# Altium footprint library Board Extenders.PcbLib: 1 footprints
Each footprint in its own frame and in the unit in brackets; x right, y up, seen from the top. Pads: shape width x height; smd on the part's side, far side on the other; paste and mask are expansions set on the pad; w line width, h text height; cw(c..) or ccw(c..) is an arc to the next point about the centre after c.
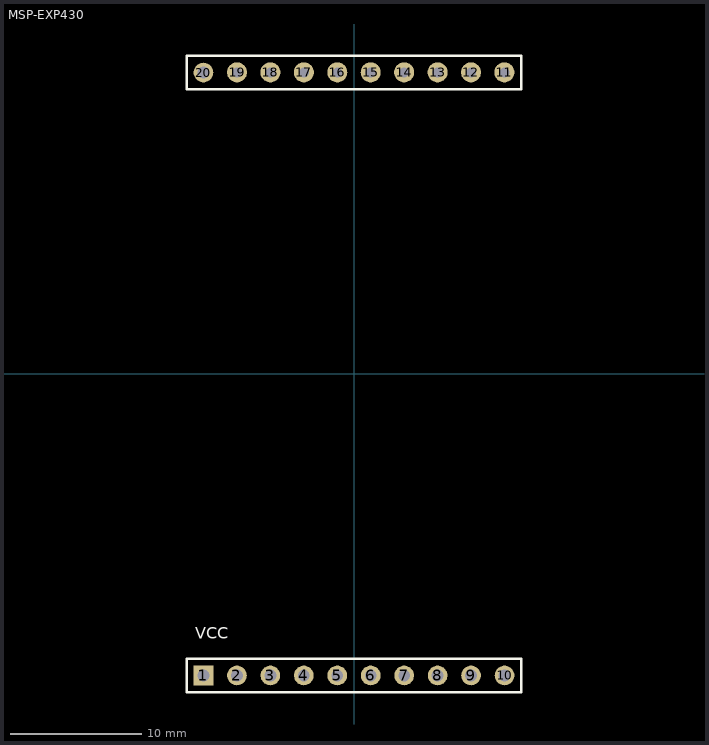
[diagram p0: the footprint, top view; thin cyan lines are the x and y axes]

## MSP-EXP430 [mm] "MSP-EXP430"
pads (20):
  rect 1.5x1.5 hole 0.9: 1(-11.43,-22.892)
  round 1.5 hole 0.9: 2(-8.89,-22.892) 3(-6.35,-22.892) 4(-3.81,-22.892) 5(-1.27,-22.892) 6(1.27,-22.892) 7(3.81,-22.892) 8(6.35,-22.892) 9(8.89,-22.892) 10(11.43,-22.892) 20(-11.43,22.88)
  round 1.524 hole 0.762: 11(11.418,22.892) 12(8.881,22.892) 13(6.343,22.892) 14(3.806,22.892) 15(1.269,22.892) 16(-1.269,22.892) 17(-3.806,22.892) 18(-6.343,22.892) 19(-8.881,22.892)
Top Overlay:
  lines w0.2: -12.7,-24.162 -12.7,-21.622 -10.795,-21.622 12.7,-21.622 12.7,-24.162 -12.7,-24.162 ; -12.7,21.61 12.7,21.61 12.7,24.15 -10.795,24.15 -12.7,24.15 -12.7,21.61
  text "VCC" at -12.065,-20.098 h0.89